# Altium integrated library TPS613223ADBVT.IntLib: 1 symbol
Pins are listed as number, name and electrical type; pins without a type are passive.

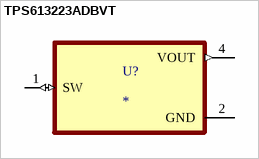
[diagram p0: symbol TPS613223ADBVT]

## TPS613223ADBVT
designator U?
MP: TPS613223ADBVT; Package: None; Price: None; Value: *; Availability: Unavailable
footprint SOT95P280X145-5N
pins: 1 SW (io), 2 GND (power), 4 VOUT (out)